# Altium footprint library Pattern No3d 20090609.PcbLib: 323 footprints (part 10 of 22)
Each footprint in its own frame and in the unit in brackets; x right, y up, seen from the top. Pads: shape width x height; smd on the part's side, far side on the other; paste and mask are expansions set on the pad; w line width, h text height; cw(c..) or ccw(c..) is an arc to the next point about the centre after c.
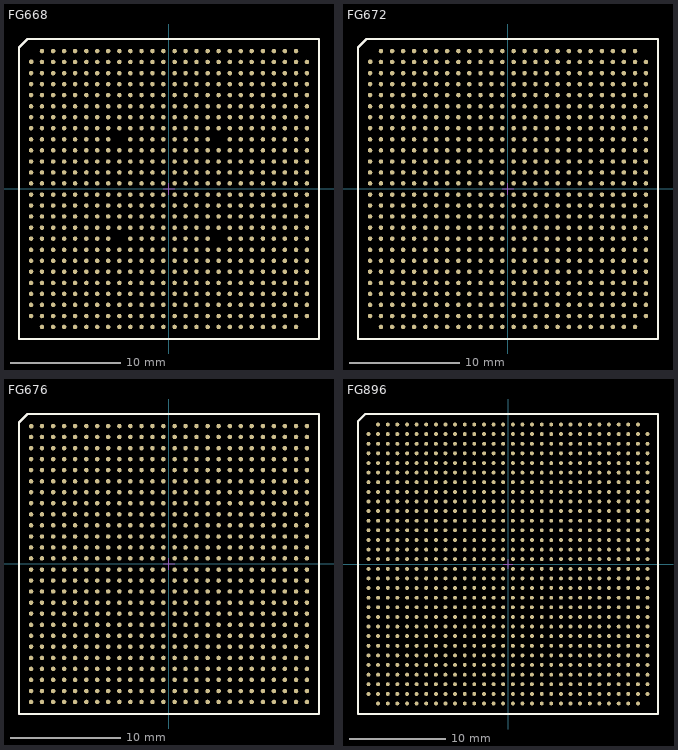
[diagram p9: the footprints below, top view; thin cyan lines are the x and y axes]

## FG668 [mil] "http://www.xilinx.com/support/documentation/package_specs/ff668.pdf"
pads (668):
  round 16 smd mask+3: A2(-453,492) A3(-413,492) A4(-374,492) A5(-335,492) A6(-295,492) A7(-256,492) A8(-217,492) A9(-177,492) A10(-138,492) A11(-98,492) A12(-59,492) A13(-20,492) A14(20,492) A15(59,492) A16(98,492) A17(138,492) A18(177,492) A19(217,492) A20(256,492) A21(295,492) A22(335,492) A23(374,492) A24(413,492) A25(453,492) AA1(-492,-295) AA2(-453,-295) AA3(-413,-295) AA4(-374,-295) AA5(-335,-295) AA6(-295,-295) AA7(-256,-295) AA8(-217,-295) AA9(-177,-295) AA10(-138,-295) AA11(-98,-295) AA12(-59,-295) AA13(-20,-295) AA14(20,-295) AA15(59,-295) AA16(98,-295) AA17(138,-295) AA18(177,-295) AA19(217,-295) AA20(256,-295) AA21(295,-295) AA22(335,-295) AA23(374,-295) AA24(413,-295) AA25(453,-295) AA26(492,-295) AB1(-492,-335) AB2(-453,-335) AB3(-413,-335) AB4(-374,-335) AB5(-335,-335) AB6(-295,-335) AB7(-256,-335) AB8(-217,-335) AB9(-177,-335) AB10(-138,-335) AB11(-98,-335) AB12(-59,-335) AB13(-20,-335) AB14(20,-335) AB15(59,-335) AB16(98,-335) AB17(138,-335) AB18(177,-335) AB19(217,-335) AB20(256,-335) AB21(295,-335) AB22(335,-335) AB23(374,-335) AB24(413,-335) AB25(453,-335) AB26(492,-335) AC1(-492,-374) AC2(-453,-374) AC3(-413,-374) AC4(-374,-374) AC5(-335,-374) AC6(-295,-374) AC7(-256,-374) AC8(-217,-374) AC9(-177,-374) AC10(-138,-374) AC11(-98,-374) AC12(-59,-374) AC13(-20,-374) AC14(20,-374) AC15(59,-374) AC16(98,-374) AC17(138,-374) AC18(177,-374) AC19(217,-374) AC20(256,-374) AC21(295,-374) AC22(335,-374) AC23(374,-374) AC24(413,-374) AC25(453,-374) AC26(492,-374) AD1(-492,-413) AD2(-453,-413) AD3(-413,-413) AD4(-374,-413) AD5(-335,-413) AD6(-295,-413) AD7(-256,-413) AD8(-217,-413) AD9(-177,-413) AD10(-138,-413) AD11(-98,-413) AD12(-59,-413) AD13(-20,-413) AD14(20,-413) AD15(59,-413) AD16(98,-413) AD17(138,-413) AD18(177,-413) AD19(217,-413) AD20(256,-413) AD21(295,-413) AD22(335,-413) AD23(374,-413) AD24(413,-413) AD25(453,-413) AD26(492,-413) AE1(-492,-453) AE2(-453,-453) AE3(-413,-453) AE4(-374,-453) AE5(-335,-453) AE6(-295,-453) AE7(-256,-453) AE8(-217,-453) AE9(-177,-453) AE10(-138,-453) AE11(-98,-453) AE12(-59,-453) AE13(-20,-453) AE14(20,-453) AE15(59,-453) AE16(98,-453) AE17(138,-453) AE18(177,-453) AE19(217,-453) AE20(256,-453) AE21(295,-453) AE22(335,-453) AE23(374,-453) AE24(413,-453) AE25(453,-453) AE26(492,-453) AF2(-453,-492) AF3(-413,-492) AF4(-374,-492) AF5(-335,-492) AF6(-295,-492) AF7(-256,-492) AF8(-217,-492) AF9(-177,-492) AF10(-138,-492) AF11(-98,-492) AF12(-59,-492) AF13(-20,-492) AF14(20,-492) AF15(59,-492) AF16(98,-492) AF17(138,-492) AF18(177,-492) AF19(217,-492) AF20(256,-492) AF21(295,-492) AF22(335,-492) AF23(374,-492) AF24(413,-492) AF25(453,-492) B2(-453,453) B3(-413,453) B4(-374,453) B5(-335,453) B6(-295,453) B7(-256,453) B8(-217,453) B9(-177,453) B10(-138,453) B11(-98,453) B12(-59,453) B13(-20,453) B14(20,453) B15(59,453) B16(98,453) B17(138,453) B18(177,453) B19(217,453) B20(256,453) B21(295,453) B22(335,453) B23(374,453) B24(413,453) B25(453,453) B26(492,453) C1(-492,413) C2(-453,413) C3(-413,413) C4(-374,413) C5(-335,413) C6(-295,413) C7(-256,413) C8(-217,413) C9(-177,413) C10(-138,413) C11(-98,413) C12(-59,413) C13(-20,413) C14(20,413) C15(59,413) C16(98,413) C17(138,413) C18(177,413) C19(217,413) C20(256,413) C21(295,413) C22(335,413) C23(374,413) C24(413,413) C25(453,413) C26(492,413) D1(-492,374) D2(-453,374) D3(-413,374) D4(-374,374) D5(-335,374) D6(-295,374) D7(-256,374) D8(-217,374) D9(-177,374) D10(-138,374) D11(-98,374) D12(-59,374) D13(-20,374) D14(20,374) D15(59,374) D16(98,374) D17(138,374) D18(177,374) D19(217,374) D20(256,374) D21(295,374) D22(335,374) D23(374,374) D24(413,374) D25(453,374) D26(492,374) E1(-492,335) E2(-453,335) E3(-413,335) E4(-374,335) E5(-335,335) E6(-295,335) E7(-256,335) E8(-217,335) E9(-177,335) E10(-138,335) E11(-98,335) E12(-59,335) E13(-20,335) E14(20,335) E15(59,335) E16(98,335) E17(138,335) E18(177,335) E19(217,335) E20(256,335) E21(295,335) E22(335,335) E23(374,335) E24(413,335) E25(453,335) E26(492,335) F1(-492,295) F2(-453,295) F3(-413,295) F4(-374,295) F5(-335,295) F6(-295,295) F7(-256,295) F8(-217,295) F9(-177,295) F10(-138,295) F11(-98,295) F12(-59,295) F13(-20,295) F14(20,295) F15(59,295) F16(98,295) F17(138,295) F18(177,295) F19(217,295) F20(256,295) F21(295,295) F22(335,295) F23(374,295) F24(413,295) F25(453,295) F26(492,295) G1(-492,256) G2(-453,256) G3(-413,256) G4(-374,256) G5(-335,256) G6(-295,256) G7(-256,256) G8(-217,256) G9(-177,256) G10(-138,256) G11(-98,256) G12(-59,256) G13(-20,256) G14(20,256) G15(59,256) G16(98,256) G17(138,256) G18(177,256) G19(217,256) G20(256,256) G21(295,256) G22(335,256) G23(374,256) G24(413,256) G25(453,256) G26(492,256) H1(-492,217) H2(-453,217) H3(-413,217) H4(-374,217) H5(-335,217) H6(-295,217) H7(-256,217) H8(-217,217) H9(-177,217) H10(-138,217) H11(-98,217) H12(-59,217) H13(-20,217) H14(20,217) H15(59,217) H16(98,217) H17(138,217) H18(177,217) H19(217,217) H20(256,217) H21(295,217) H22(335,217) H23(374,217) H24(413,217) H25(453,217) H26(492,217) J1(-492,177) J2(-453,177) J3(-413,177) J4(-374,177) J5(-335,177) J6(-295,177) J7(-256,177) J8(-217,177) J10(-138,177) J11(-98,177) J12(-59,177) J13(-20,177) J14(20,177) J15(59,177) J16(98,177) J17(138,177) J19(217,177) J20(256,177) J21(295,177) J22(335,177) J23(374,177) J24(413,177) J25(453,177) J26(492,177) K1(-492,138) K2(-453,138) K3(-413,138) K4(-374,138) K5(-335,138) K6(-295,138) K7(-256,138) K8(-217,138) K9(-177,138) K10(-138,138) K11(-98,138) K12(-59,138) K13(-20,138) K14(20,138) K15(59,138) K16(98,138) K17(138,138) K18(177,138) K19(217,138) K20(256,138) K21(295,138) K22(335,138) K23(374,138) K24(413,138) K25(453,138) K26(492,138) L1(-492,98) L2(-453,98) L3(-413,98) L4(-374,98) L5(-335,98) L6(-295,98) L7(-256,98) L8(-217,98) L9(-177,98) L10(-138,98) L11(-98,98) L12(-59,98) L13(-20,98) L14(20,98) L15(59,98) L16(98,98) L17(138,98) L18(177,98) L19(217,98) L20(256,98) L21(295,98) L22(335,98) L23(374,98) L24(413,98) L25(453,98) L26(492,98) M1(-492,59) M2(-453,59) M3(-413,59) M4(-374,59) M5(-335,59) M6(-295,59) M7(-256,59) M8(-217,59) M9(-177,59) M10(-138,59) M11(-98,59) M12(-59,59) M13(-20,59) M14(20,59) M15(59,59) M16(98,59) M17(138,59) M18(177,59) M19(217,59) M20(256,59) M21(295,59) M22(335,59) M23(374,59) M24(413,59) M25(453,59) M26(492,59) N1(-492,20) N2(-453,20) N3(-413,20) N4(-374,20) N5(-335,20) N6(-295,20) N7(-256,20) N8(-217,20) N9(-177,20) N10(-138,20) N11(-98,20) N12(-59,20) N13(-20,20) N14(20,20) N15(59,20) N16(98,20) N17(138,20) N18(177,20) N19(217,20) N20(256,20) N21(295,20) N22(335,20) N23(374,20) N24(413,20) N25(453,20) N26(492,20) P1(-492,-20) P2(-453,-20) P3(-413,-20) P4(-374,-20) P5(-335,-20) P6(-295,-20) P7(-256,-20) P8(-217,-20) P9(-177,-20) P10(-138,-20) P11(-98,-20) P12(-59,-20) P13(-20,-20) P14(20,-20) P15(59,-20) P16(98,-20) P17(138,-20) P18(177,-20) P19(217,-20) P20(256,-20) P21(295,-20) P22(335,-20) P23(374,-20) P24(413,-20) P25(453,-20) P26(492,-20) R1(-492,-59) R2(-453,-59) R3(-413,-59) R4(-374,-59) R5(-335,-59) R6(-295,-59) R7(-256,-59) R8(-217,-59) R9(-177,-59) R10(-138,-59) R11(-98,-59) R12(-59,-59) R13(-20,-59) R14(20,-59) R15(59,-59) R16(98,-59) R17(138,-59) R18(177,-59) R19(217,-59) R20(256,-59) R21(295,-59) R22(335,-59) R23(374,-59) R24(413,-59) R25(453,-59) R26(492,-59) T1(-492,-98) T2(-453,-98) T3(-413,-98) T4(-374,-98) T5(-335,-98) T6(-295,-98) T7(-256,-98) T8(-217,-98) T9(-177,-98) T10(-138,-98) T11(-98,-98) T12(-59,-98) T13(-20,-98) T14(20,-98) T15(59,-98) T16(98,-98) T17(138,-98) T18(177,-98) T19(217,-98) T20(256,-98) T21(295,-98) T22(335,-98) T23(374,-98) T24(413,-98) T25(453,-98) T26(492,-98) U1(-492,-138) U2(-453,-138) U3(-413,-138) U4(-374,-138) U5(-335,-138) U6(-295,-138) U7(-256,-138) U8(-217,-138) U9(-177,-138) U10(-138,-138) U11(-98,-138) U12(-59,-138) U13(-20,-138) U14(20,-138) U15(59,-138) U16(98,-138) U17(138,-138) U18(177,-138) U19(217,-138) U20(256,-138) U21(295,-138) U22(335,-138) U23(374,-138) U24(413,-138) U25(453,-138) U26(492,-138) V1(-492,-177) V2(-453,-177) V3(-413,-177) V4(-374,-177) V5(-335,-177) V6(-295,-177) V7(-256,-177) V8(-217,-177) V10(-138,-177) V11(-98,-177) V12(-59,-177) V13(-20,-177) V14(20,-177) V15(59,-177) V16(98,-177) V17(138,-177) V19(217,-177) V20(256,-177) V21(295,-177) V22(335,-177) V23(374,-177) V24(413,-177) V25(453,-177) V26(492,-177) W1(-492,-217) W2(-453,-217) W3(-413,-217) W4(-374,-217) W5(-335,-217) W6(-295,-217) W7(-256,-217) W8(-217,-217) W9(-177,-217) W10(-138,-217) W11(-98,-217) W12(-59,-217) W13(-20,-217) W14(20,-217) W15(59,-217) W16(98,-217) W17(138,-217) W18(177,-217) W19(217,-217) W20(256,-217) W21(295,-217) W22(335,-217) W23(374,-217) W24(413,-217) W25(453,-217) W26(492,-217) Y1(-492,-256) Y2(-453,-256) Y3(-413,-256) Y4(-374,-256) Y5(-335,-256) Y6(-295,-256) Y7(-256,-256) Y8(-217,-256) Y9(-177,-256) Y10(-138,-256) Y11(-98,-256) Y12(-59,-256) Y13(-20,-256) Y14(20,-256) Y15(59,-256) Y16(98,-256) Y17(138,-256) Y18(177,-256) Y19(217,-256) Y20(256,-256) Y21(295,-256) Y22(335,-256) Y23(374,-256) Y24(413,-256) Y25(453,-256) Y26(492,-256)
  oct 16x16 smd mask+3: B1(-492,453)
Top Overlay:
  lines w8: -535,-535 -535,505 -505,535 535,535 535,-535 -535,-535
Mechanical 1:
  lines w4: -535,-535 -535,505 -505,535 535,535 535,-535 -535,-535
Mechanical 15:
  lines w4: -20,0 20,0 ; 0,-20 0,20

## FG672 [mil] "http://www.xilinx.com/support/documentation/package_specs/ff672.pdf"
pads (672):
  round 16 smd mask+3: A2(-453,492) A3(-413,492) A4(-374,492) A5(-335,492) A6(-295,492) A7(-256,492) A8(-217,492) A9(-177,492) A10(-138,492) A11(-98,492) A12(-59,492) A13(-20,492) A14(20,492) A15(59,492) A16(98,492) A17(138,492) A18(177,492) A19(217,492) A20(256,492) A21(295,492) A22(335,492) A23(374,492) A24(413,492) A25(453,492) AA1(-492,-295) AA2(-453,-295) AA3(-413,-295) AA4(-374,-295) AA5(-335,-295) AA6(-295,-295) AA7(-256,-295) AA8(-217,-295) AA9(-177,-295) AA10(-138,-295) AA11(-98,-295) AA12(-59,-295) AA13(-20,-295) AA14(20,-295) AA15(59,-295) AA16(98,-295) AA17(138,-295) AA18(177,-295) AA19(217,-295) AA20(256,-295) AA21(295,-295) AA22(335,-295) AA23(374,-295) AA24(413,-295) AA25(453,-295) AA26(492,-295) AB1(-492,-335) AB2(-453,-335) AB3(-413,-335) AB4(-374,-335) AB5(-335,-335) AB6(-295,-335) AB7(-256,-335) AB8(-217,-335) AB9(-177,-335) AB10(-138,-335) AB11(-98,-335) AB12(-59,-335) AB13(-20,-335) AB14(20,-335) AB15(59,-335) AB16(98,-335) AB17(138,-335) AB18(177,-335) AB19(217,-335) AB20(256,-335) AB21(295,-335) AB22(335,-335) AB23(374,-335) AB24(413,-335) AB25(453,-335) AB26(492,-335) AC1(-492,-374) AC2(-453,-374) AC3(-413,-374) AC4(-374,-374) AC5(-335,-374) AC6(-295,-374) AC7(-256,-374) AC8(-217,-374) AC9(-177,-374) AC10(-138,-374) AC11(-98,-374) AC12(-59,-374) AC13(-20,-374) AC14(20,-374) AC15(59,-374) AC16(98,-374) AC17(138,-374) AC18(177,-374) AC19(217,-374) AC20(256,-374) AC21(295,-374) AC22(335,-374) AC23(374,-374) AC24(413,-374) AC25(453,-374) AC26(492,-374) AD1(-492,-413) AD2(-453,-413) AD3(-413,-413) AD4(-374,-413) AD5(-335,-413) AD6(-295,-413) AD7(-256,-413) AD8(-217,-413) AD9(-177,-413) AD10(-138,-413) AD11(-98,-413) AD12(-59,-413) AD13(-20,-413) AD14(20,-413) AD15(59,-413) AD16(98,-413) AD17(138,-413) AD18(177,-413) AD19(217,-413) AD20(256,-413) AD21(295,-413) AD22(335,-413) AD23(374,-413) AD24(413,-413) AD25(453,-413) AD26(492,-413) AE1(-492,-453) AE2(-453,-453) AE3(-413,-453) AE4(-374,-453) AE5(-335,-453) AE6(-295,-453) AE7(-256,-453) AE8(-217,-453) AE9(-177,-453) AE10(-138,-453) AE11(-98,-453) AE12(-59,-453) AE13(-20,-453) AE14(20,-453) AE15(59,-453) AE16(98,-453) AE17(138,-453) AE18(177,-453) AE19(217,-453) AE20(256,-453) AE21(295,-453) AE22(335,-453) AE23(374,-453) AE24(413,-453) AE25(453,-453) AE26(492,-453) AF2(-453,-492) AF3(-413,-492) AF4(-374,-492) AF5(-335,-492) AF6(-295,-492) AF7(-256,-492) AF8(-217,-492) AF9(-177,-492) AF10(-138,-492) AF11(-98,-492) AF12(-59,-492) AF13(-20,-492) AF14(20,-492) AF15(59,-492) AF16(98,-492) AF17(138,-492) AF18(177,-492) AF19(217,-492) AF20(256,-492) AF21(295,-492) AF22(335,-492) AF23(374,-492) AF24(413,-492) AF25(453,-492) B2(-453,453) B3(-413,453) B4(-374,453) B5(-335,453) B6(-295,453) B7(-256,453) B8(-217,453) B9(-177,453) B10(-138,453) B11(-98,453) B12(-59,453) B13(-20,453) B14(20,453) B15(59,453) B16(98,453) B17(138,453) B18(177,453) B19(217,453) B20(256,453) B21(295,453) B22(335,453) B23(374,453) B24(413,453) B25(453,453) B26(492,453) C1(-492,413) C2(-453,413) C3(-413,413) C4(-374,413) C5(-335,413) C6(-295,413) C7(-256,413) C8(-217,413) C9(-177,413) C10(-138,413) C11(-98,413) C12(-59,413) C13(-20,413) C14(20,413) C15(59,413) C16(98,413) C17(138,413) C18(177,413) C19(217,413) C20(256,413) C21(295,413) C22(335,413) C23(374,413) C24(413,413) C25(453,413) C26(492,413) D1(-492,374) D2(-453,374) D3(-413,374) D4(-374,374) D5(-335,374) D6(-295,374) D7(-256,374) D8(-217,374) D9(-177,374) D10(-138,374) D11(-98,374) D12(-59,374) D13(-20,374) D14(20,374) D15(59,374) D16(98,374) D17(138,374) D18(177,374) D19(217,374) D20(256,374) D21(295,374) D22(335,374) D23(374,374) D24(413,374) D25(453,374) D26(492,374) E1(-492,335) E2(-453,335) E3(-413,335) E4(-374,335) E5(-335,335) E6(-295,335) E7(-256,335) E8(-217,335) E9(-177,335) E10(-138,335) E11(-98,335) E12(-59,335) E13(-20,335) E14(20,335) E15(59,335) E16(98,335) E17(138,335) E18(177,335) E19(217,335) E20(256,335) E21(295,335) E22(335,335) E23(374,335) E24(413,335) E25(453,335) E26(492,335) F1(-492,295) F2(-453,295) F3(-413,295) F4(-374,295) F5(-335,295) F6(-295,295) F7(-256,295) F8(-217,295) F9(-177,295) F10(-138,295) F11(-98,295) F12(-59,295) F13(-20,295) F14(20,295) F15(59,295) F16(98,295) F17(138,295) F18(177,295) F19(217,295) F20(256,295) F21(295,295) F22(335,295) F23(374,295) F24(413,295) F25(453,295) F26(492,295) G1(-492,256) G2(-453,256) G3(-413,256) G4(-374,256) G5(-335,256) G6(-295,256) G7(-256,256) G8(-217,256) G9(-177,256) G10(-138,256) G11(-98,256) G12(-59,256) G13(-20,256) G14(20,256) G15(59,256) G16(98,256) G17(138,256) G18(177,256) G19(217,256) G20(256,256) G21(295,256) G22(335,256) G23(374,256) G24(413,256) G25(453,256) G26(492,256) H1(-492,217) H2(-453,217) H3(-413,217) H4(-374,217) H5(-335,217) H6(-295,217) H7(-256,217) H8(-217,217) H9(-177,217) H10(-138,217) H11(-98,217) H12(-59,217) H13(-20,217) H14(20,217) H15(59,217) H16(98,217) H17(138,217) H18(177,217) H19(217,217) H20(256,217) H21(295,217) H22(335,217) H23(374,217) H24(413,217) H25(453,217) H26(492,217) J1(-492,177) J2(-453,177) J3(-413,177) J4(-374,177) J5(-335,177) J6(-295,177) J7(-256,177) J8(-217,177) J9(-177,177) J10(-138,177) J11(-98,177) J12(-59,177) J13(-20,177) J14(20,177) J15(59,177) J16(98,177) J17(138,177) J18(177,177) J19(217,177) J20(256,177) J21(295,177) J22(335,177) J23(374,177) J24(413,177) J25(453,177) J26(492,177) K1(-492,138) K2(-453,138) K3(-413,138) K4(-374,138) K5(-335,138) K6(-295,138) K7(-256,138) K8(-217,138) K9(-177,138) K10(-138,138) K11(-98,138) K12(-59,138) K13(-20,138) K14(20,138) K15(59,138) K16(98,138) K17(138,138) K18(177,138) K19(217,138) K20(256,138) K21(295,138) K22(335,138) K23(374,138) K24(413,138) K25(453,138) K26(492,138) L1(-492,98) L2(-453,98) L3(-413,98) L4(-374,98) L5(-335,98) L6(-295,98) L7(-256,98) L8(-217,98) L9(-177,98) L10(-138,98) L11(-98,98) L12(-59,98) L13(-20,98) L14(20,98) L15(59,98) L16(98,98) L17(138,98) L18(177,98) L19(217,98) L20(256,98) L21(295,98) L22(335,98) L23(374,98) L24(413,98) L25(453,98) L26(492,98) M1(-492,59) M2(-453,59) M3(-413,59) M4(-374,59) M5(-335,59) M6(-295,59) M7(-256,59) M8(-217,59) M9(-177,59) M10(-138,59) M11(-98,59) M12(-59,59) M13(-20,59) M14(20,59) M15(59,59) M16(98,59) M17(138,59) M18(177,59) M19(217,59) M20(256,59) M21(295,59) M22(335,59) M23(374,59) M24(413,59) M25(453,59) M26(492,59) N1(-492,20) N2(-453,20) N3(-413,20) N4(-374,20) N5(-335,20) N6(-295,20) N7(-256,20) N8(-217,20) N9(-177,20) N10(-138,20) N11(-98,20) N12(-59,20) N13(-20,20) N14(20,20) N15(59,20) N16(98,20) N17(138,20) N18(177,20) N19(217,20) N20(256,20) N21(295,20) N22(335,20) N23(374,20) N24(413,20) N25(453,20) N26(492,20) P1(-492,-20) P2(-453,-20) P3(-413,-20) P4(-374,-20) P5(-335,-20) P6(-295,-20) P7(-256,-20) P8(-217,-20) P9(-177,-20) P10(-138,-20) P11(-98,-20) P12(-59,-20) P13(-20,-20) P14(20,-20) P15(59,-20) P16(98,-20) P17(138,-20) P18(177,-20) P19(217,-20) P20(256,-20) P21(295,-20) P22(335,-20) P23(374,-20) P24(413,-20) P25(453,-20) P26(492,-20) R1(-492,-59) R2(-453,-59) R3(-413,-59) R4(-374,-59) R5(-335,-59) R6(-295,-59) R7(-256,-59) R8(-217,-59) R9(-177,-59) R10(-138,-59) R11(-98,-59) R12(-59,-59) R13(-20,-59) R14(20,-59) R15(59,-59) R16(98,-59) R17(138,-59) R18(177,-59) R19(217,-59) R20(256,-59) R21(295,-59) R22(335,-59) R23(374,-59) R24(413,-59) R25(453,-59) R26(492,-59) T1(-492,-98) T2(-453,-98) T3(-413,-98) T4(-374,-98) T5(-335,-98) T6(-295,-98) T7(-256,-98) T8(-217,-98) T9(-177,-98) T10(-138,-98) T11(-98,-98) T12(-59,-98) T13(-20,-98) T14(20,-98) T15(59,-98) T16(98,-98) T17(138,-98) T18(177,-98) T19(217,-98) T20(256,-98) T21(295,-98) T22(335,-98) T23(374,-98) T24(413,-98) T25(453,-98) T26(492,-98) U1(-492,-138) U2(-453,-138) U3(-413,-138) U4(-374,-138) U5(-335,-138) U6(-295,-138) U7(-256,-138) U8(-217,-138) U9(-177,-138) U10(-138,-138) U11(-98,-138) U12(-59,-138) U13(-20,-138) U14(20,-138) U15(59,-138) U16(98,-138) U17(138,-138) U18(177,-138) U19(217,-138) U20(256,-138) U21(295,-138) U22(335,-138) U23(374,-138) U24(413,-138) U25(453,-138) U26(492,-138) V1(-492,-177) V2(-453,-177) V3(-413,-177) V4(-374,-177) V5(-335,-177) V6(-295,-177) V7(-256,-177) V8(-217,-177) V9(-177,-177) V10(-138,-177) V11(-98,-177) V12(-59,-177) V13(-20,-177) V14(20,-177) V15(59,-177) V16(98,-177) V17(138,-177) V18(177,-177) V19(217,-177) V20(256,-177) V21(295,-177) V22(335,-177) V23(374,-177) V24(413,-177) V25(453,-177) V26(492,-177) W1(-492,-217) W2(-453,-217) W3(-413,-217) W4(-374,-217) W5(-335,-217) W6(-295,-217) W7(-256,-217) W8(-217,-217) W9(-177,-217) W10(-138,-217) W11(-98,-217) W12(-59,-217) W13(-20,-217) W14(20,-217) W15(59,-217) W16(98,-217) W17(138,-217) W18(177,-217) W19(217,-217) W20(256,-217) W21(295,-217) W22(335,-217) W23(374,-217) W24(413,-217) W25(453,-217) W26(492,-217) Y1(-492,-256) Y2(-453,-256) Y3(-413,-256) Y4(-374,-256) Y5(-335,-256) Y6(-295,-256) Y7(-256,-256) Y8(-217,-256) Y9(-177,-256) Y10(-138,-256) Y11(-98,-256) Y12(-59,-256) Y13(-20,-256) Y14(20,-256) Y15(59,-256) Y16(98,-256) Y17(138,-256) Y18(177,-256) Y19(217,-256) Y20(256,-256) Y21(295,-256) Y22(335,-256) Y23(374,-256) Y24(413,-256) Y25(453,-256) Y26(492,-256)
  oct 16x16 smd mask+3: B1(-492,453)
Top Overlay:
  lines w8: -535,-535 -535,505 -505,535 535,535 535,-535 -535,-535
Mechanical 1:
  lines w4: -535,-535 -535,505 -505,535 535,535 535,-535 -535,-535
Mechanical 15:
  lines w4: -20,0 20,0 ; 0,-20 0,20

## FG676 [mil] "http://www.xilinx.com/support/documentation/package_specs/ff676.pdf"
pads (676):
  oct 16x16 smd mask+3: A1(-492,492)
  round 16 smd mask+3: A2(-453,492) A3(-413,492) A4(-374,492) A5(-335,492) A6(-295,492) A7(-256,492) A8(-217,492) A9(-177,492) A10(-138,492) A11(-98,492) A12(-59,492) A13(-20,492) A14(20,492) A15(59,492) A16(98,492) A17(138,492) A18(177,492) A19(217,492) A20(256,492) A21(295,492) A22(335,492) A23(374,492) A24(413,492) A25(453,492) A26(492,492) AA1(-492,-295) AA2(-453,-295) AA3(-413,-295) AA4(-374,-295) AA5(-335,-295) AA6(-295,-295) AA7(-256,-295) AA8(-217,-295) AA9(-177,-295) AA10(-138,-295) AA11(-98,-295) AA12(-59,-295) AA13(-20,-295) AA14(20,-295) AA15(59,-295) AA16(98,-295) AA17(138,-295) AA18(177,-295) AA19(217,-295) AA20(256,-295) AA21(295,-295) AA22(335,-295) AA23(374,-295) AA24(413,-295) AA25(453,-295) AA26(492,-295) AB1(-492,-335) AB2(-453,-335) AB3(-413,-335) AB4(-374,-335) AB5(-335,-335) AB6(-295,-335) AB7(-256,-335) AB8(-217,-335) AB9(-177,-335) AB10(-138,-335) AB11(-98,-335) AB12(-59,-335) AB13(-20,-335) AB14(20,-335) AB15(59,-335) AB16(98,-335) AB17(138,-335) AB18(177,-335) AB19(217,-335) AB20(256,-335) AB21(295,-335) AB22(335,-335) AB23(374,-335) AB24(413,-335) AB25(453,-335) AB26(492,-335) AC1(-492,-374) AC2(-453,-374) AC3(-413,-374) AC4(-374,-374) AC5(-335,-374) AC6(-295,-374) AC7(-256,-374) AC8(-217,-374) AC9(-177,-374) AC10(-138,-374) AC11(-98,-374) AC12(-59,-374) AC13(-20,-374) AC14(20,-374) AC15(59,-374) AC16(98,-374) AC17(138,-374) AC18(177,-374) AC19(217,-374) AC20(256,-374) AC21(295,-374) AC22(335,-374) AC23(374,-374) AC24(413,-374) AC25(453,-374) AC26(492,-374) AD1(-492,-413) AD2(-453,-413) AD3(-413,-413) AD4(-374,-413) AD5(-335,-413) AD6(-295,-413) AD7(-256,-413) AD8(-217,-413) AD9(-177,-413) AD10(-138,-413) AD11(-98,-413) AD12(-59,-413) AD13(-20,-413) AD14(20,-413) AD15(59,-413) AD16(98,-413) AD17(138,-413) AD18(177,-413) AD19(217,-413) AD20(256,-413) AD21(295,-413) AD22(335,-413) AD23(374,-413) AD24(413,-413) AD25(453,-413) AD26(492,-413) AE1(-492,-453) AE2(-453,-453) AE3(-413,-453) AE4(-374,-453) AE5(-335,-453) AE6(-295,-453) AE7(-256,-453) AE8(-217,-453) AE9(-177,-453) AE10(-138,-453) AE11(-98,-453) AE12(-59,-453) AE13(-20,-453) AE14(20,-453) AE15(59,-453) AE16(98,-453) AE17(138,-453) AE18(177,-453) AE19(217,-453) AE20(256,-453) AE21(295,-453) AE22(335,-453) AE23(374,-453) AE24(413,-453) AE25(453,-453) AE26(492,-453) AF1(-492,-492) AF2(-453,-492) AF3(-413,-492) AF4(-374,-492) AF5(-335,-492) AF6(-295,-492) AF7(-256,-492) AF8(-217,-492) AF9(-177,-492) AF10(-138,-492) AF11(-98,-492) AF12(-59,-492) AF13(-20,-492) AF14(20,-492) AF15(59,-492) AF16(98,-492) AF17(138,-492) AF18(177,-492) AF19(217,-492) AF20(256,-492) AF21(295,-492) AF22(335,-492) AF23(374,-492) AF24(413,-492) AF25(453,-492) AF26(492,-492) B1(-492,453) B2(-453,453) B3(-413,453) B4(-374,453) B5(-335,453) B6(-295,453) B7(-256,453) B8(-217,453) B9(-177,453) B10(-138,453) B11(-98,453) B12(-59,453) B13(-20,453) B14(20,453) B15(59,453) B16(98,453) B17(138,453) B18(177,453) B19(217,453) B20(256,453) B21(295,453) B22(335,453) B23(374,453) B24(413,453) B25(453,453) B26(492,453) C1(-492,413) C2(-453,413) C3(-413,413) C4(-374,413) C5(-335,413) C6(-295,413) C7(-256,413) C8(-217,413) C9(-177,413) C10(-138,413) C11(-98,413) C12(-59,413) C13(-20,413) C14(20,413) C15(59,413) C16(98,413) C17(138,413) C18(177,413) C19(217,413) C20(256,413) C21(295,413) C22(335,413) C23(374,413) C24(413,413) C25(453,413) C26(492,413) D1(-492,374) D2(-453,374) D3(-413,374) D4(-374,374) D5(-335,374) D6(-295,374) D7(-256,374) D8(-217,374) D9(-177,374) D10(-138,374) D11(-98,374) D12(-59,374) D13(-20,374) D14(20,374) D15(59,374) D16(98,374) D17(138,374) D18(177,374) D19(217,374) D20(256,374) D21(295,374) D22(335,374) D23(374,374) D24(413,374) D25(453,374) D26(492,374) E1(-492,335) E2(-453,335) E3(-413,335) E4(-374,335) E5(-335,335) E6(-295,335) E7(-256,335) E8(-217,335) E9(-177,335) E10(-138,335) E11(-98,335) E12(-59,335) E13(-20,335) E14(20,335) E15(59,335) E16(98,335) E17(138,335) E18(177,335) E19(217,335) E20(256,335) E21(295,335) E22(335,335) E23(374,335) E24(413,335) E25(453,335) E26(492,335) F1(-492,295) F2(-453,295) F3(-413,295) F4(-374,295) F5(-335,295) F6(-295,295) F7(-256,295) F8(-217,295) F9(-177,295) F10(-138,295) F11(-98,295) F12(-59,295) F13(-20,295) F14(20,295) F15(59,295) F16(98,295) F17(138,295) F18(177,295) F19(217,295) F20(256,295) F21(295,295) F22(335,295) F23(374,295) F24(413,295) F25(453,295) F26(492,295) G1(-492,256) G2(-453,256) G3(-413,256) G4(-374,256) G5(-335,256) G6(-295,256) G7(-256,256) G8(-217,256) G9(-177,256) G10(-138,256) G11(-98,256) G12(-59,256) G13(-20,256) G14(20,256) G15(59,256) G16(98,256) G17(138,256) G18(177,256) G19(217,256) G20(256,256) G21(295,256) G22(335,256) G23(374,256) G24(413,256) G25(453,256) G26(492,256) H1(-492,217) H2(-453,217) H3(-413,217) H4(-374,217) H5(-335,217) H6(-295,217) H7(-256,217) H8(-217,217) H9(-177,217) H10(-138,217) H11(-98,217) H12(-59,217) H13(-20,217) H14(20,217) H15(59,217) H16(98,217) H17(138,217) H18(177,217) H19(217,217) H20(256,217) H21(295,217) H22(335,217) H23(374,217) H24(413,217) H25(453,217) H26(492,217) J1(-492,177) J2(-453,177) J3(-413,177) J4(-374,177) J5(-335,177) J6(-295,177) J7(-256,177) J8(-217,177) J9(-177,177) J10(-138,177) J11(-98,177) J12(-59,177) J13(-20,177) J14(20,177) J15(59,177) J16(98,177) J17(138,177) J18(177,177) J19(217,177) J20(256,177) J21(295,177) J22(335,177) J23(374,177) J24(413,177) J25(453,177) J26(492,177) K1(-492,138) K2(-453,138) K3(-413,138) K4(-374,138) K5(-335,138) K6(-295,138) K7(-256,138) K8(-217,138) K9(-177,138) K10(-138,138) K11(-98,138) K12(-59,138) K13(-20,138) K14(20,138) K15(59,138) K16(98,138) K17(138,138) K18(177,138) K19(217,138) K20(256,138) K21(295,138) K22(335,138) K23(374,138) K24(413,138) K25(453,138) K26(492,138) L1(-492,98) L2(-453,98) L3(-413,98) L4(-374,98) L5(-335,98) L6(-295,98) L7(-256,98) L8(-217,98) L9(-177,98) L10(-138,98) L11(-98,98) L12(-59,98) L13(-20,98) L14(20,98) L15(59,98) L16(98,98) L17(138,98) L18(177,98) L19(217,98) L20(256,98) L21(295,98) L22(335,98) L23(374,98) L24(413,98) L25(453,98) L26(492,98) M1(-492,59) M2(-453,59) M3(-413,59) M4(-374,59) M5(-335,59) M6(-295,59) M7(-256,59) M8(-217,59) M9(-177,59) M10(-138,59) M11(-98,59) M12(-59,59) M13(-20,59) M14(20,59) M15(59,59) M16(98,59) M17(138,59) M18(177,59) M19(217,59) M20(256,59) M21(295,59) M22(335,59) M23(374,59) M24(413,59) M25(453,59) M26(492,59) N1(-492,20) N2(-453,20) N3(-413,20) N4(-374,20) N5(-335,20) N6(-295,20) N7(-256,20) N8(-217,20) N9(-177,20) N10(-138,20) N11(-98,20) N12(-59,20) N13(-20,20) N14(20,20) N15(59,20) N16(98,20) N17(138,20) N18(177,20) N19(217,20) N20(256,20) N21(295,20) N22(335,20) N23(374,20) N24(413,20) N25(453,20) N26(492,20) P1(-492,-20) P2(-453,-20) P3(-413,-20) P4(-374,-20) P5(-335,-20) P6(-295,-20) P7(-256,-20) P8(-217,-20) P9(-177,-20) P10(-138,-20) P11(-98,-20) P12(-59,-20) P13(-20,-20) P14(20,-20) P15(59,-20) P16(98,-20) P17(138,-20) P18(177,-20) P19(217,-20) P20(256,-20) P21(295,-20) P22(335,-20) P23(374,-20) P24(413,-20) P25(453,-20) P26(492,-20) R1(-492,-59) R2(-453,-59) R3(-413,-59) R4(-374,-59) R5(-335,-59) R6(-295,-59) R7(-256,-59) R8(-217,-59) R9(-177,-59) R10(-138,-59) R11(-98,-59) R12(-59,-59) R13(-20,-59) R14(20,-59) R15(59,-59) R16(98,-59) R17(138,-59) R18(177,-59) R19(217,-59) R20(256,-59) R21(295,-59) R22(335,-59) R23(374,-59) R24(413,-59) R25(453,-59) R26(492,-59) T1(-492,-98) T2(-453,-98) T3(-413,-98) T4(-374,-98) T5(-335,-98) T6(-295,-98) T7(-256,-98) T8(-217,-98) T9(-177,-98) T10(-138,-98) T11(-98,-98) T12(-59,-98) T13(-20,-98) T14(20,-98) T15(59,-98) T16(98,-98) T17(138,-98) T18(177,-98) T19(217,-98) T20(256,-98) T21(295,-98) T22(335,-98) T23(374,-98) T24(413,-98) T25(453,-98) T26(492,-98) U1(-492,-138) U2(-453,-138) U3(-413,-138) U4(-374,-138) U5(-335,-138) U6(-295,-138) U7(-256,-138) U8(-217,-138) U9(-177,-138) U10(-138,-138) U11(-98,-138) U12(-59,-138) U13(-20,-138) U14(20,-138) U15(59,-138) U16(98,-138) U17(138,-138) U18(177,-138) U19(217,-138) U20(256,-138) U21(295,-138) U22(335,-138) U23(374,-138) U24(413,-138) U25(453,-138) U26(492,-138) V1(-492,-177) V2(-453,-177) V3(-413,-177) V4(-374,-177) V5(-335,-177) V6(-295,-177) V7(-256,-177) V8(-217,-177) V9(-177,-177) V10(-138,-177) V11(-98,-177) V12(-59,-177) V13(-20,-177) V14(20,-177) V15(59,-177) V16(98,-177) V17(138,-177) V18(177,-177) V19(217,-177) V20(256,-177) V21(295,-177) V22(335,-177) V23(374,-177) V24(413,-177) V25(453,-177) V26(492,-177) W1(-492,-217) W2(-453,-217) W3(-413,-217) W4(-374,-217) W5(-335,-217) W6(-295,-217) W7(-256,-217) W8(-217,-217) W9(-177,-217) W10(-138,-217) W11(-98,-217) W12(-59,-217) W13(-20,-217) W14(20,-217) W15(59,-217) W16(98,-217) W17(138,-217) W18(177,-217) W19(217,-217) W20(256,-217) W21(295,-217) W22(335,-217) W23(374,-217) W24(413,-217) W25(453,-217) W26(492,-217) Y1(-492,-256) Y2(-453,-256) Y3(-413,-256) Y4(-374,-256) Y5(-335,-256) Y6(-295,-256) Y7(-256,-256) Y8(-217,-256) Y9(-177,-256) Y10(-138,-256) Y11(-98,-256) Y12(-59,-256) Y13(-20,-256) Y14(20,-256) Y15(59,-256) Y16(98,-256) Y17(138,-256) Y18(177,-256) Y19(217,-256) Y20(256,-256) Y21(295,-256) Y22(335,-256) Y23(374,-256) Y24(413,-256) Y25(453,-256) Y26(492,-256)
Top Overlay:
  lines w8: -535,-535 535,-535 535,535 -505,535 -535,505 -535,-535
Mechanical 1:
  lines w4: -535,-535 535,-535 535,535 -505,535 -535,505 -535,-535
Mechanical 15:
  lines w4: -20,0 20,0 ; 0,-20 0,20

## FG896 [mil] "http://www.xilinx.com/support/documentation/package_specs/ff896.pdf"
pads (896):
  round 16 smd mask+3: A2(-532,571) A3(-492,571) A4(-453,571) A5(-413,571) A6(-374,571) A7(-335,571) A8(-295,571) A9(-256,571) A10(-217,571) A11(-177,571) A12(-138,571) A13(-98,571) A14(-59,571) A15(-20,571) A16(20,571) A17(59,571) A18(98,571) A19(138,571) A20(177,571) A21(217,571) A22(256,571) A23(295,571) A24(335,571) A25(374,571) A26(413,571) A27(453,571) A28(492,571) A29(532,571) AA1(-571,-217) AA2(-532,-217) AA3(-492,-217) AA4(-453,-217) AA5(-413,-217) AA6(-374,-217) AA7(-335,-217) AA8(-295,-217) AA9(-256,-217) AA10(-217,-217) AA11(-177,-217) AA12(-138,-217) AA13(-98,-217) AA14(-59,-217) AA15(-20,-217) AA16(20,-217) AA17(59,-217) AA18(98,-217) AA19(138,-217) AA20(177,-217) AA21(217,-217) AA22(256,-217) AA23(295,-217) AA24(335,-217) AA25(374,-217) AA26(413,-217) AA27(453,-217) AA28(492,-217) AA29(532,-217) AA30(571,-217) AB1(-571,-256) AB2(-532,-256) AB3(-492,-256) AB4(-453,-256) AB5(-413,-256) AB6(-374,-256) AB7(-335,-256) AB8(-295,-256) AB9(-256,-256) AB10(-217,-256) AB11(-177,-256) AB12(-138,-256) AB13(-98,-256) AB14(-59,-256) AB15(-20,-256) AB16(20,-256) AB17(59,-256) AB18(98,-256) AB19(138,-256) AB20(177,-256) AB21(217,-256) AB22(256,-256) AB23(295,-256) AB24(335,-256) AB25(374,-256) AB26(413,-256) AB27(453,-256) AB28(492,-256) AB29(532,-256) AB30(571,-256) AC1(-571,-295) AC2(-532,-295) AC3(-492,-295) AC4(-453,-295) AC5(-413,-295) AC6(-374,-295) AC7(-335,-295) AC8(-295,-295) AC9(-256,-295) AC10(-217,-295) AC11(-177,-295) AC12(-138,-295) AC13(-98,-295) AC14(-59,-295) AC15(-20,-295) AC16(20,-295) AC17(59,-295) AC18(98,-295) AC19(138,-295) AC20(177,-295) AC21(217,-295) AC22(256,-295) AC23(295,-295) AC24(335,-295) AC25(374,-295) AC26(413,-295) AC27(453,-295) AC28(492,-295) AC29(532,-295) AC30(571,-295) AD1(-571,-335) AD2(-532,-335) AD3(-492,-335) AD4(-453,-335) AD5(-413,-335) AD6(-374,-335) AD7(-335,-335) AD8(-295,-335) AD9(-256,-335) AD10(-217,-335) AD11(-177,-335) AD12(-138,-335) AD13(-98,-335) AD14(-59,-335) AD15(-20,-335) AD16(20,-335) AD17(59,-335) AD18(98,-335) AD19(138,-335) AD20(177,-335) AD21(217,-335) AD22(256,-335) AD23(295,-335) AD24(335,-335) AD25(374,-335) AD26(413,-335) AD27(453,-335) AD28(492,-335) AD29(532,-335) AD30(571,-335) AE1(-571,-374) AE2(-532,-374) AE3(-492,-374) AE4(-453,-374) AE5(-413,-374) AE6(-374,-374) AE7(-335,-374) AE8(-295,-374) AE9(-256,-374) AE10(-217,-374) AE11(-177,-374) AE12(-138,-374) AE13(-98,-374) AE14(-59,-374) AE15(-20,-374) AE16(20,-374) AE17(59,-374) AE18(98,-374) AE19(138,-374) AE20(177,-374) AE21(217,-374) AE22(256,-374) AE23(295,-374) AE24(335,-374) AE25(374,-374) AE26(413,-374) AE27(453,-374) AE28(492,-374) AE29(532,-374) AE30(571,-374) AF1(-571,-413) AF2(-532,-413) AF3(-492,-413) AF4(-453,-413) AF5(-413,-413) AF6(-374,-413) AF7(-335,-413) AF8(-295,-413) AF9(-256,-413) AF10(-217,-413) AF11(-177,-413) AF12(-138,-413) AF13(-98,-413) AF14(-59,-413) AF15(-20,-413) AF16(20,-413) AF17(59,-413) AF18(98,-413) AF19(138,-413) AF20(177,-413) AF21(217,-413) AF22(256,-413) AF23(295,-413) AF24(335,-413) AF25(374,-413) AF26(413,-413) AF27(453,-413) AF28(492,-413) AF29(532,-413) AF30(571,-413) AG1(-571,-453) AG2(-532,-453) AG3(-492,-453) AG4(-453,-453) AG5(-413,-453) AG6(-374,-453) AG7(-335,-453) AG8(-295,-453) AG9(-256,-453) AG10(-217,-453) AG11(-177,-453) AG12(-138,-453) AG13(-98,-453) AG14(-59,-453) AG15(-20,-453) AG16(20,-453) AG17(59,-453) AG18(98,-453) AG19(138,-453) AG20(177,-453) AG21(217,-453) AG22(256,-453) AG23(295,-453) AG24(335,-453) AG25(374,-453) AG26(413,-453) AG27(453,-453) AG28(492,-453) AG29(532,-453) AG30(571,-453) AH1(-571,-492) AH2(-532,-492) AH3(-492,-492) AH4(-453,-492) AH5(-413,-492) AH6(-374,-492) AH7(-335,-492) AH8(-295,-492) AH9(-256,-492) AH10(-217,-492) AH11(-177,-492) AH12(-138,-492) AH13(-98,-492) AH14(-59,-492) AH15(-20,-492) AH16(20,-492) AH17(59,-492) AH18(98,-492) AH19(138,-492) AH20(177,-492) AH21(217,-492) AH22(256,-492) AH23(295,-492) AH24(335,-492) AH25(374,-492) AH26(413,-492) AH27(453,-492) AH28(492,-492) AH29(532,-492) AH30(571,-492) AJ1(-571,-532) AJ2(-532,-532) AJ3(-492,-532) AJ4(-453,-532) AJ5(-413,-532) AJ6(-374,-532) AJ7(-335,-532) AJ8(-295,-532) AJ9(-256,-532) AJ10(-217,-532) AJ11(-177,-532) AJ12(-138,-532) AJ13(-98,-532) AJ14(-59,-532) AJ15(-20,-532) AJ16(20,-532) AJ17(59,-532) AJ18(98,-532) AJ19(138,-532) AJ20(177,-532) AJ21(217,-532) AJ22(256,-532) AJ23(295,-532) AJ24(335,-532) AJ25(374,-532) AJ26(413,-532) AJ27(453,-532) AJ28(492,-532) AJ29(532,-532) AJ30(571,-532) AK2(-532,-571) AK3(-492,-571) AK4(-453,-571) AK5(-413,-571) AK6(-374,-571) AK7(-335,-571) AK8(-295,-571) AK9(-256,-571) AK10(-217,-571) AK11(-177,-571) AK12(-138,-571) AK13(-98,-571) AK14(-59,-571) AK15(-20,-571) AK16(20,-571) AK17(59,-571) AK18(98,-571) AK19(138,-571) AK20(177,-571) AK21(217,-571) AK22(256,-571) AK23(295,-571) AK24(335,-571) AK25(374,-571) AK26(413,-571) AK27(453,-571) AK28(492,-571) AK29(532,-571) B2(-532,532) B3(-492,532) B4(-453,532) B5(-413,532) B6(-374,532) B7(-335,532) B8(-295,532) B9(-256,532) B10(-217,532) B11(-177,532) B12(-138,532) B13(-98,532) B14(-59,532) B15(-20,532) B16(20,532) B17(59,532) B18(98,532) B19(138,532) B20(177,532) B21(217,532) B22(256,532) B23(295,532) B24(335,532) B25(374,532) B26(413,532) B27(453,532) B28(492,532) B29(532,532) B30(571,532) C1(-571,492) C2(-532,492) C3(-492,492) C4(-453,492) C5(-413,492) C6(-374,492) C7(-335,492) C8(-295,492) C9(-256,492) C10(-217,492) C11(-177,492) C12(-138,492) C13(-98,492) C14(-59,492) C15(-20,492) C16(20,492) C17(59,492) C18(98,492) C19(138,492) C20(177,492) C21(217,492) C22(256,492) C23(295,492) C24(335,492) C25(374,492) C26(413,492) C27(453,492) C28(492,492) C29(532,492) C30(571,492) D1(-571,453) D2(-532,453) D3(-492,453) D4(-453,453) D5(-413,453) D6(-374,453) D7(-335,453) D8(-295,453) D9(-256,453) D10(-217,453) D11(-177,453) D12(-138,453) D13(-98,453) D14(-59,453) D15(-20,453) D16(20,453) D17(59,453) D18(98,453) D19(138,453) D20(177,453) D21(217,453) D22(256,453) D23(295,453) D24(335,453) D25(374,453) D26(413,453) D27(453,453) D28(492,453) D29(532,453) D30(571,453) E1(-571,413) E2(-532,413) E3(-492,413) E4(-453,413) E5(-413,413) E6(-374,413) E7(-335,413) E8(-295,413) E9(-256,413) E10(-217,413) E11(-177,413) E12(-138,413) E13(-98,413) E14(-59,413) E15(-20,413) E16(20,413) E17(59,413) E18(98,413) E19(138,413) E20(177,413) E21(217,413) E22(256,413) E23(295,413) E24(335,413) E25(374,413) E26(413,413) E27(453,413) E28(492,413) E29(532,413) E30(571,413) F1(-571,374) F2(-532,374) F3(-492,374) F4(-453,374) F5(-413,374) F6(-374,374) F7(-335,374) F8(-295,374) F9(-256,374) F10(-217,374) F11(-177,374) F12(-138,374) F13(-98,374) F14(-59,374) F15(-20,374) F16(20,374) F17(59,374) F18(98,374) F19(138,374) F20(177,374) F21(217,374) F22(256,374) F23(295,374) F24(335,374) F25(374,374) F26(413,374) F27(453,374) F28(492,374) F29(532,374) F30(571,374) G1(-571,335) G2(-532,335) G3(-492,335) G4(-453,335) G5(-413,335) G6(-374,335) G7(-335,335) G8(-295,335) G9(-256,335) G10(-217,335) G11(-177,335) G12(-138,335) G13(-98,335) G14(-59,335) G15(-20,335) G16(20,335) G17(59,335) G18(98,335) G19(138,335) G20(177,335) G21(217,335) G22(256,335) G23(295,335) G24(335,335) G25(374,335) G26(413,335) G27(453,335) G28(492,335) G29(532,335) G30(571,335) H1(-571,295) H2(-532,295) H3(-492,295) H4(-453,295) H5(-413,295) H6(-374,295) H7(-335,295) H8(-295,295) H9(-256,295) H10(-217,295) H11(-177,295) H12(-138,295) H13(-98,295) H14(-59,295) H15(-20,295) H16(20,295) H17(59,295) H18(98,295) H19(138,295) H20(177,295) H21(217,295) H22(256,295) H23(295,295) H24(335,295) H25(374,295) H26(413,295) H27(453,295) H28(492,295) H29(532,295) H30(571,295) J1(-571,256) J2(-532,256) J3(-492,256) J4(-453,256) J5(-413,256) J6(-374,256) J7(-335,256) J8(-295,256) J9(-256,256) J10(-217,256) J11(-177,256) J12(-138,256) J13(-98,256) J14(-59,256) J15(-20,256) J16(20,256) J17(59,256) J18(98,256) J19(138,256) J20(177,256) J21(217,256) J22(256,256) J23(295,256) J24(335,256) J25(374,256) J26(413,256) J27(453,256) J28(492,256) J29(532,256) J30(571,256) K1(-571,217) K2(-532,217) K3(-492,217) K4(-453,217) K5(-413,217) K6(-374,217) K7(-335,217) K8(-295,217) K9(-256,217) K10(-217,217) K11(-177,217) K12(-138,217) K13(-98,217) K14(-59,217) K15(-20,217) K16(20,217) K17(59,217) K18(98,217) K19(138,217) K20(177,217) K21(217,217) K22(256,217) K23(295,217) K24(335,217) K25(374,217) K26(413,217) K27(453,217) K28(492,217) K29(532,217) K30(571,217) L1(-571,177) L2(-532,177) L3(-492,177) L4(-453,177) L5(-413,177) L6(-374,177) L7(-335,177) L8(-295,177) L9(-256,177) L10(-217,177) L11(-177,177) L12(-138,177) L13(-98,177) L14(-59,177) L15(-20,177) L16(20,177) L17(59,177) L18(98,177) L19(138,177) L20(177,177) L21(217,177) L22(256,177) L23(295,177) L24(335,177) L25(374,177) L26(413,177) L27(453,177) L28(492,177) L29(532,177) L30(571,177) M1(-571,138) M2(-532,138) M3(-492,138) M4(-453,138) M5(-413,138) M6(-374,138) M7(-335,138) M8(-295,138) M9(-256,138) M10(-217,138) M11(-177,138) M12(-138,138) M13(-98,138) M14(-59,138) M15(-20,138) M16(20,138) M17(59,138) M18(98,138) M19(138,138) M20(177,138) M21(217,138) M22(256,138) M23(295,138) M24(335,138) M25(374,138) M26(413,138) M27(453,138) M28(492,138) M29(532,138) M30(571,138) N1(-571,98) N2(-532,98) N3(-492,98) N4(-453,98) N5(-413,98) N6(-374,98) N7(-335,98) N8(-295,98) N9(-256,98) N10(-217,98) N11(-177,98) N12(-138,98) N13(-98,98) N14(-59,98) N15(-20,98) N16(20,98) N17(59,98) N18(98,98) N19(138,98) N20(177,98) N21(217,98) N22(256,98) N23(295,98) N24(335,98) N25(374,98) N26(413,98) N27(453,98) N28(492,98) N29(532,98) N30(571,98) P1(-571,59) P2(-532,59) P3(-492,59) P4(-453,59) P5(-413,59) P6(-374,59) P7(-335,59) P8(-295,59) P9(-256,59) P10(-217,59) P11(-177,59) P12(-138,59) P13(-98,59) P14(-59,59) P15(-20,59) P16(20,59) P17(59,59) P18(98,59) P19(138,59) P20(177,59) P21(217,59) P22(256,59) P23(295,59) P24(335,59) P25(374,59) P26(413,59) P27(453,59) P28(492,59) P29(532,59) P30(571,59) R1(-571,20) R2(-532,20) R3(-492,20) R4(-453,20) R5(-413,20) R6(-374,20) R7(-335,20) R8(-295,20) R9(-256,20) R10(-217,20) R11(-177,20) R12(-138,20) R13(-98,20) R14(-59,20) R15(-20,20) R16(20,20) R17(59,20) R18(98,20) R19(138,20) R20(177,20) R21(217,20) R22(256,20) R23(295,20) R24(335,20) R25(374,20) R26(413,20) R27(453,20) R28(492,20) R29(532,20) R30(571,20) T1(-571,-20) T2(-532,-20) T3(-492,-20) T4(-453,-20) T5(-413,-20) T6(-374,-20) T7(-335,-20) T8(-295,-20) T9(-256,-20) T10(-217,-20) T11(-177,-20) T12(-138,-20) T13(-98,-20) T14(-59,-20) T15(-20,-20) T16(20,-20) T17(59,-20) T18(98,-20) T19(138,-20) T20(177,-20) T21(217,-20) T22(256,-20) T23(295,-20) T24(335,-20) T25(374,-20) T26(413,-20) T27(453,-20) T28(492,-20) T29(532,-20) T30(571,-20) U1(-571,-59) U2(-532,-59) U3(-492,-59) U4(-453,-59) U5(-413,-59) U6(-374,-59) U7(-335,-59) U8(-295,-59) U9(-256,-59) U10(-217,-59) U11(-177,-59) U12(-138,-59) U13(-98,-59) U14(-59,-59) U15(-20,-59) U16(20,-59) U17(59,-59) U18(98,-59) U19(138,-59) U20(177,-59) U21(217,-59) U22(256,-59) U23(295,-59) U24(335,-59) U25(374,-59) U26(413,-59) U27(453,-59) U28(492,-59) U29(532,-59) U30(571,-59) V1(-571,-98) V2(-532,-98) V3(-492,-98) V4(-453,-98) V5(-413,-98) V6(-374,-98) V7(-335,-98) V8(-295,-98) V9(-256,-98) V10(-217,-98) V11(-177,-98) V12(-138,-98) V13(-98,-98) V14(-59,-98) V15(-20,-98) V16(20,-98) V17(59,-98) V18(98,-98) V19(138,-98) V20(177,-98) V21(217,-98) V22(256,-98) V23(295,-98) V24(335,-98) V25(374,-98) V26(413,-98) V27(453,-98) V28(492,-98) V29(532,-98) V30(571,-98) W1(-571,-138) W2(-532,-138) W3(-492,-138) W4(-453,-138) W5(-413,-138) W6(-374,-138) W7(-335,-138) W8(-295,-138) W9(-256,-138) W10(-217,-138) W11(-177,-138) W12(-138,-138) W13(-98,-138) W14(-59,-138) W15(-20,-138) W16(20,-138) W17(59,-138) W18(98,-138) W19(138,-138) W20(177,-138) W21(217,-138) W22(256,-138) W23(295,-138) W24(335,-138) W25(374,-138) W26(413,-138) W27(453,-138) W28(492,-138) W29(532,-138) W30(571,-138) Y1(-571,-177) Y2(-532,-177) Y3(-492,-177) Y4(-453,-177) Y5(-413,-177) Y6(-374,-177) Y7(-335,-177) Y8(-295,-177) Y9(-256,-177) Y10(-217,-177) Y11(-177,-177) Y12(-138,-177) Y13(-98,-177) Y14(-59,-177) Y15(-20,-177) Y16(20,-177) Y17(59,-177) Y18(98,-177) Y19(138,-177) Y20(177,-177) Y21(217,-177) Y22(256,-177) Y23(295,-177) Y24(335,-177) Y25(374,-177) Y26(413,-177) Y27(453,-177) Y28(492,-177) Y29(532,-177) Y30(571,-177)
  oct 16x16 smd mask+3: B1(-571,532)
Top Overlay:
  lines w8: -614,-614 -614,584 -584,614 614,614 614,-614 -614,-614
Mechanical 1:
  lines w4: -614,-614 -614,584 -584,614 614,614 614,-614 -614,-614
Mechanical 15:
  lines w4: -20,0 20,0 ; 0,-20 0,20